# Altium footprint library AltiumDesigner.PcbLib: 151 footprints (part 8 of 10)
Each footprint in its own frame and in the unit in brackets; x right, y up, seen from the top. Pads: shape width x height; smd on the part's side, far side on the other; paste and mask are expansions set on the pad; w line width, h text height; cw(c..) or ccw(c..) is an arc to the next point about the centre after c.
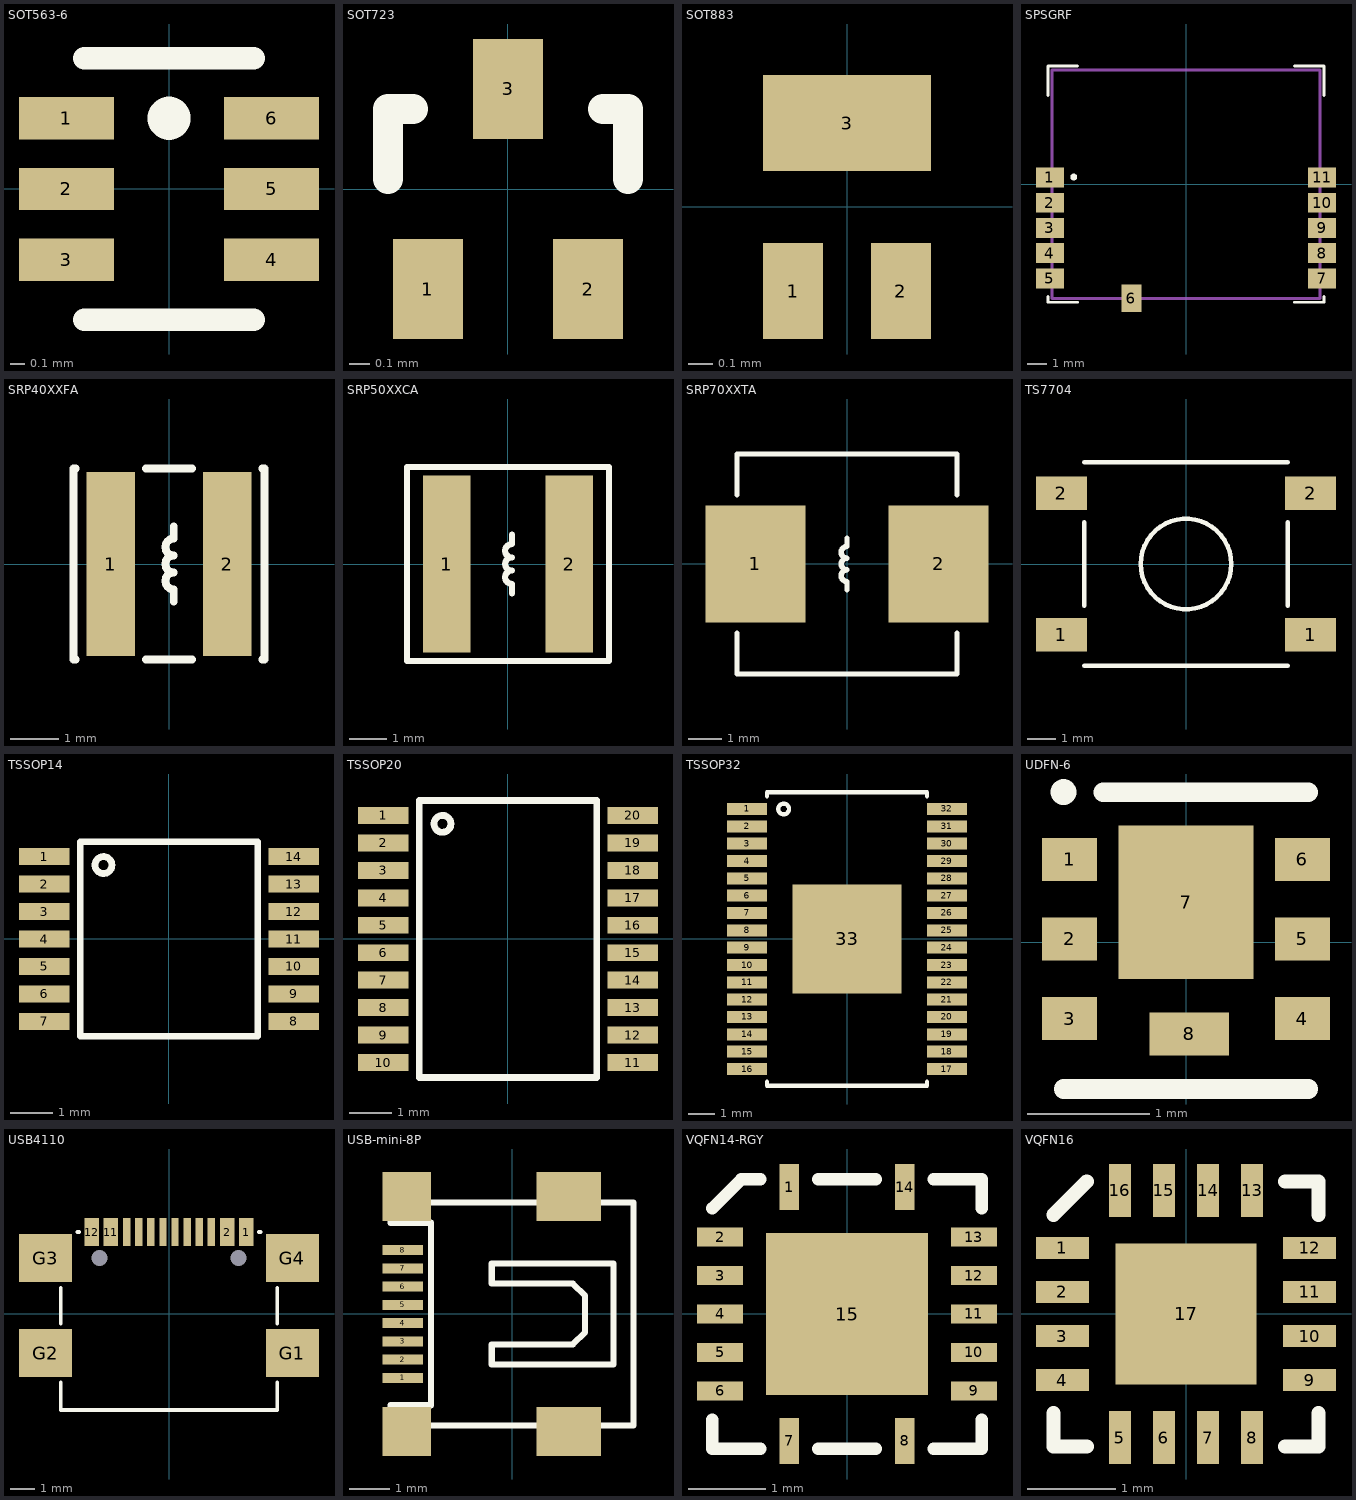
[diagram p7: the footprints below, top view; thin cyan lines are the x and y axes]

## SOT563-6 [mm]
pads (6):
  rect 0.67x0.3 smd: 1(-0.725,0.5) 2(-0.725,0) 3(-0.725,-0.5) 4(0.725,-0.5) 5(0.725,0) 6(0.725,0.5)
Top Overlay:
  circle w0.254: c0,0.5 r0.025
  lines w0.16: -0.6,-0.925 0.6,-0.925 ; -0.6,0.925 0.6,0.925

## SOT723 [mm]
pads (3):
  rect 0.35x0.5 smd: 1(-0.4,-0.5) 2(0.4,-0.5) 3(0,0.5)
Top Overlay:
  lines w0.15: -0.6,0.05 -0.6,0.4 -0.475,0.4 ; 0.475,0.4 0.6,0.4 0.6,0.05

## SOT883 [mm]
pads (3):
  rect 0.25x0.4 smd: 1(-0.225,-0.35) 2(0.225,-0.35)
  rect 0.7x0.4 smd: 3(0,0.35)

## SPSGRF [mm]
height 2
pads (12):
  rect 1.4x1 smd: 1(-6.85,0.33) 2(-6.85,-0.94) 3(-6.85,-2.21) 4(-6.85,-3.48) 5(-6.85,-4.75) 7(6.85,-4.75) 8(6.85,-3.48) 9(6.85,-2.21) 10(6.85,-0.94) 11(6.85,0.33)
  round 0.35 on Top Overlay: 1(-5.65,0.35)
  rect 1x1.4 smd: 6(-2.75,-5.75)
Top Overlay:
  lines w0.15: -6.95,-5.65 -6.95,-5.95 -5.45,-5.95 ; -6.95,4.45 -6.95,5.95 -5.45,5.95 ; 5.45,-5.95 6.95,-5.95 6.95,-5.65 ; 5.45,5.95 6.95,5.95 6.95,4.45
Mechanical 1:
  lines w0.15: -6.75,-5.75 -6.75,5.75 6.75,5.75 6.75,-5.75 -6.75,-5.75

## SRP40XXFA [mm] "Bourns SRP40XXFA"
pads (2):
  rect 1x3.8 smd paste-1: 1(-1.2,0) 2(1.2,0)
Top Overlay:
  lines w0.16: -1.925,-1.975 -1.975,-1.975 -1.975,1.975 -1.925,1.975 ; -0.475,-1.975 0.475,-1.975 ; -0.475,1.975 0.475,1.975 ; 0.1,-0.775 0.1,-0.525 cw(c0.1,-0.35) 0.1,-0.175 cw(c0.1,0) 0.1,0.175 cw(c0.1,0.35) 0.1,0.525 0.1,0.775 ; 1.925,-1.975 1.975,-1.975 1.975,1.975 1.925,1.975
Top Paste:
  region: -1.575,1.5 -0.825,1.5 -0.825,0.5 -1.575,0.5
  region: -1.575,-0.5 -0.825,-0.5 -0.825,-1.5 -1.575,-1.5
  region: 0.825,1.5 1.575,1.5 1.575,0.5 0.825,0.5
  region: 0.825,-0.5 1.575,-0.5 1.575,-1.5 0.825,-1.5

## SRP50XXCA [mm] "Bourns SRP5030CA"
pads (2):
  rect 1.25x4.7 smd paste-0.625: 1(-1.625,0) 2(1.625,0)
Top Overlay:
  lines w0.16: 0.1,-0.775 0.1,-0.525 cw(c0.1,-0.35) 0.1,-0.175 cw(c0.1,0) 0.1,0.175 cw(c0.1,0.35) 0.1,0.525 0.1,0.775 ; -2.675,-2.575 -2.675,2.575 2.675,2.575 2.675,-2.575 -2.675,-2.575
Top Paste:
  region: -2.05,2.15 -1.2,2.15 -1.2,0.65 -2.05,0.65
  region: -1.2,-2.15 -2.05,-2.15 -2.05,-0.65 -1.2,-0.65
  region: 1.2,2.15 2.05,2.15 2.05,0.65 1.2,0.65
  region: 2.05,-2.15 1.2,-2.15 1.2,-0.65 2.05,-0.65

## SRP70XXTA [mm] "Bourns SRP70XXTA"
pads (2):
  rect 3x3.5 smd paste-1.5: 1(-2.75,0) 2(2.75,0)
Top Overlay:
  lines w0.16: -3.3,-2.075 -3.3,-3.3 3.3,-3.3 3.3,-2.075 ; -3.3,2.075 -3.3,3.3 3.3,3.3 3.3,2.075 ; 0,-0.775 0,-0.525 cw(c0,-0.35) 0,-0.175 cw(c0,0) 0,0.175 cw(c0,0.35) 0,0.525 0,0.775
Top Paste:
  region: 1.75,1.25 3.75,1.25 3.75,-1.25 1.75,-1.25
  region: -3.75,1.25 -1.75,1.25 -1.75,-1.25 -3.75,-1.25

## TS7704 [mm]
pads (4):
  rect 1.8x1.2 smd paste-1: 1(-4.4,-2.5) 1(4.4,-2.5) 2(-4.4,2.5) 2(4.4,2.5)
Top Overlay:
  circle w0.16: c0,0 r1.6
  lines w0.16: -3.6,-3.6 3.6,-3.6 ; -3.6,-1.475 -3.6,1.475 ; -3.6,3.6 3.6,3.6 ; 3.6,-1.475 3.6,1.475
Top Paste:
  region: -3.575,1.975 -3.575,3.025 -5.225,3.025 -5.225,1.975
  region: -3.575,-3.025 -3.575,-1.975 -5.225,-1.975 -5.225,-3.025
  region: 5.225,-3.025 5.225,-1.975 3.575,-1.975 3.575,-3.025
  region: 5.225,1.975 5.225,3.025 3.575,3.025 3.575,1.975

## TSSOP14 [mm]
pads (14):
  rect 1.2x0.4 smd: 1(-2.95,1.95) 2(-2.95,1.3) 3(-2.95,0.65) 4(-2.95,0) 5(-2.95,-0.65) 6(-2.95,-1.3) 7(-2.95,-1.95) 8(2.95,-1.95) 9(2.95,-1.3) 10(2.95,-0.65) 11(2.95,0) 12(2.95,0.65) 13(2.95,1.3) 14(2.95,1.95)
Top Overlay:
  circle w0.16: c-1.55,1.75 r0.2
  lines w0.16: -2.1,-2.3 -2.1,2.3 2.1,2.3 2.1,-2.3 -2.1,-2.3

## TSSOP20 [mm]
pads (20):
  rect 1.2x0.4 smd: 1(-2.95,2.925) 2(-2.95,2.275) 3(-2.95,1.625) 4(-2.95,0.975) 5(-2.95,0.325) 6(-2.95,-0.325) 7(-2.95,-0.975) 8(-2.95,-1.625) 9(-2.95,-2.275) 10(-2.95,-2.925) 11(2.95,-2.925) 12(2.95,-2.275) 13(2.95,-1.625) 14(2.95,-0.975) 15(2.95,-0.325) 16(2.95,0.325) 17(2.95,0.975) 18(2.95,1.625) 19(2.95,2.275) 20(2.95,2.925)
Top Overlay:
  circle w0.16: c-1.55,2.725 r0.2
  lines w0.16: -2.1,-3.275 -2.1,3.275 2.1,3.275 2.1,-3.275 -2.1,-3.275

## TSSOP32 [mm]
pads (33):
  rect 1.5x0.45 smd: 1(-3.75,4.875) 2(-3.75,4.225) 3(-3.75,3.575) 4(-3.75,2.925) 5(-3.75,2.275) 6(-3.75,1.625) 7(-3.75,0.975) 8(-3.75,0.325) 9(-3.75,-0.325) 10(-3.75,-0.975) 11(-3.75,-1.625) 12(-3.75,-2.275) 13(-3.75,-2.925) 14(-3.75,-3.575) 15(-3.75,-4.225) 16(-3.75,-4.875) 17(3.75,-4.875) 18(3.75,-4.225) 19(3.75,-3.575) 20(3.75,-2.925) 21(3.75,-2.275) 22(3.75,-1.625) 23(3.75,-0.975) 24(3.75,-0.325) 25(3.75,0.325) 26(3.75,0.975) 27(3.75,1.625) 28(3.75,2.275) 29(3.75,2.925) 30(3.75,3.575) 31(3.75,4.225) 32(3.75,4.875)
  rect 4.1x4.1 smd paste-5: 33(0,0)
Top Overlay:
  circle w0.16: c-2.375,4.875 r0.2
  lines w0.16: -3,-5.35 -3,-5.5 3,-5.5 3,-5.35 ; -3,5.35 -3,5.5 3,5.5 3,5.35
Top Paste:
  region: 0.75,0.5 1.75,0.5 1.75,-0.5 0.75,-0.5
  region: -0.5,-0.75 0.5,-0.75 0.5,-1.75 -0.5,-1.75
  region: -0.5,0.5 0.5,0.5 0.5,-0.5 -0.5,-0.5
  region: -0.5,1.75 0.5,1.75 0.5,0.75 -0.5,0.75
  region: -1.75,0.5 -0.75,0.5 -0.75,-0.5 -1.75,-0.5

## UDFN-6 [mm]
pads (8):
  rect 0.45x0.35 smd: 1(-0.95,0.675) 2(-0.95,0.025) 3(-0.95,-0.625) 4(0.95,-0.625) 5(0.95,0.025) 6(0.95,0.675)
  rect 1.1x1.25 smd: 7(0,0.325)
  rect 0.65x0.35 smd: 8(0.025,-0.75)
Top Overlay:
  circle w0.16: c-1,1.225 r0.025
  lines w0.16: -1,-1.2 1,-1.2 ; -0.675,1.225 1,1.225

## USB4110 [mm]
pads (18):
  rect 0.6x1.15 smd: 1(3.2,3.387) 2(2.4,3.387) 11(-2.4,3.387) 12(-3.2,3.387)
  rect 0.3x1.15 smd: 3(1.75,3.387) 4(1.25,3.387) 5(0.75,3.387) 6(0.25,3.387) 7(-0.25,3.387) 8(-0.75,3.387) 9(-1.25,3.387) 10(-1.75,3.387)
  rect 2.2x2 smd: G1(5.1,-1.613) G2(-5.1,-1.613) G3(-5.1,2.312) G4(5.1,2.312)
  round 0 hole 0.65 mask+0: ""(-2.875,2.312) ""(2.875,2.312)
Top Overlay:
  lines w0.16: -4.475,-2.838 -4.475,-3.963 4.475,-3.963 4.475,-2.838 ; -4.475,-0.388 -4.475,1.087 ; -3.775,3.387 -3.725,3.387 ; 3.725,3.387 3.775,3.387 ; 4.475,-0.388 4.475,1.087

## USB-mini-8P [mm]
pads (12):
  rect 1x0.25 smd: 1(-2.7,-1.575) 2(-2.7,-1.125) 3(-2.7,-0.675) 4(-2.7,-0.225) 5(-2.7,0.225) 6(-2.7,0.675) 7(-2.7,1.125) 8(-2.7,1.575)
  rect 1.2x1.2 smd: ""(-2.6,-2.9) ""(-2.6,2.9)
  rect 1.6x1.2 smd: ""(1.4,-2.9) ""(1.4,2.9)
Top Overlay:
  lines w0.15: -2.2,-2.75 -2.2,-3.35 -3,-3.35 -3,-2.75 ; -2.2,2.75 -2.2,3.35 -3,3.35 -3,2.75 ; 0.8,-2.75 0.8,-3.35 2,-3.35 2,-2.75 ; 0.8,2.75 0.8,3.35 2,3.35 2,2.75 ; -3,-2.75 -3,-2.25 -2,-2.25 -2,2.25 -3,2.25 -3,2.75 ; -3,-2.75 3,-2.75 3,2.75 -3,2.75 ; -0.5,0.75 -0.5,0.75 ; -0.5,0.75 -0.5,1.25 2.5,1.25 2.5,-1.25 -0.5,-1.25 -0.5,-0.75 1.5,-0.75 1.8,-0.45 1.8,0.45 1.5,0.75 -0.5,0.75

## VQFN14-RGY [mm]
pads (15):
  rect 0.25x0.6 smd: 1(-0.75,1.65) 7(-0.75,-1.65) 8(0.75,-1.65) 14(0.75,1.65)
  rect 0.6x0.25 smd: 2(-1.65,1) 3(-1.65,0.5) 4(-1.65,0) 5(-1.65,-0.5) 6(-1.65,-1) 9(1.65,-1) 10(1.65,-0.5) 11(1.65,0) 12(1.65,0.5) 13(1.65,1)
  rect 2.1x2.1 smd paste-2: 15(0,0)
Top Overlay:
  lines w0.16: -1.75,-1.375 -1.75,-1.75 -1.125,-1.75 ; -1.75,1.375 -1.375,1.75 -1.125,1.75 ; -0.375,-1.75 0.375,-1.75 ; -0.375,1.75 0.375,1.75 ; 1.125,-1.75 1.75,-1.75 1.75,-1.375 ; 1.125,1.75 1.75,1.75 1.75,1.375
Top Paste:
  region: 0.2,0.95 0.95,0.95 0.95,0.2 0.2,0.2
  region: -0.95,-0.2 -0.2,-0.2 -0.2,-0.95 -0.95,-0.95
  region: -0.95,0.95 -0.2,0.95 -0.2,0.2 -0.95,0.2
  region: 0.2,-0.2 0.95,-0.2 0.95,-0.95 0.2,-0.95

## VQFN16 [mm]
pads (17):
  rect 0.6x0.25 smd: 1(-1.4,0.75) 2(-1.4,0.25) 3(-1.4,-0.25) 4(-1.4,-0.75) 9(1.4,-0.75) 10(1.4,-0.25) 11(1.4,0.25) 12(1.4,0.75)
  rect 0.25x0.6 smd: 5(-0.75,-1.4) 6(-0.25,-1.4) 7(0.25,-1.4) 8(0.75,-1.4) 13(0.75,1.4) 14(0.25,1.4) 15(-0.25,1.4) 16(-0.75,1.4)
  rect 1.6x1.6 smd paste-5: 17(0,0)
Top Overlay:
  lines w0.16: -1.5,-1.125 -1.5,-1.5 -1.125,-1.5 ; -1.5,1.125 -1.125,1.5 ; 1.125,-1.5 1.5,-1.5 1.5,-1.125 ; 1.125,1.5 1.5,1.5 1.5,1.125
Top Paste:
  region: -0.5,0.5 0.5,0.5 0.5,-0.5 -0.5,-0.5